# EAGLE library part AD725 (library logik2)
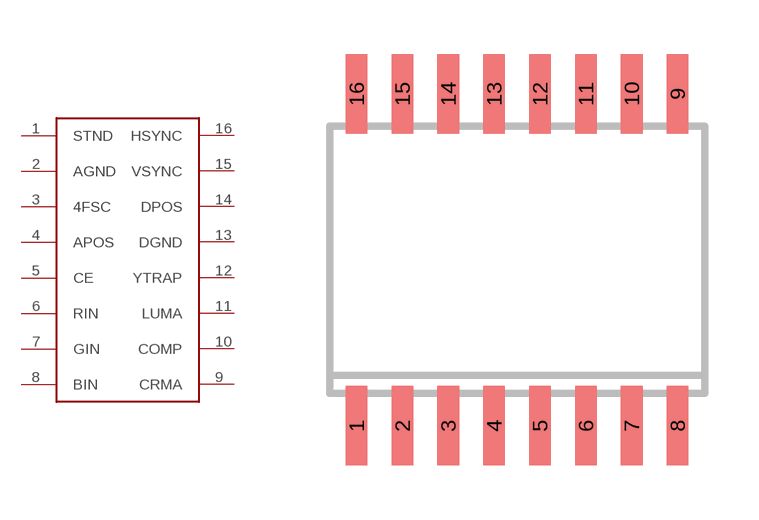
[diagram p16: symbol with the pads of SO16W; footprint SO16W]

Designator prefix -

## AD725  [SO16W]
1  STND
2  AGND
3  4FSC
4  APOS
5  CE
6  RIN
7  GIN
8  BIN
9  CRMA
10  COMP
11  LUMA
12  YTRAP
13  DGND
14  DPOS
15  VSYNC
16  HSYNC

## Footprint SO16W (pad centres in mm)
SMALL OUTLINE INTEGRATED CIRCUIT wide body 7.5 mm/JEDEC MS-013AA
smd 0.6 x 2.2: 1 -4.445,-4.6; 2 -3.175,-4.6; 3 -1.905,-4.6; 4 -0.635,-4.6; 5 0.635,-4.6; 6 1.905,-4.6; 7 3.175,-4.6; 8 4.445,-4.6; 9 4.445,4.6; 10 3.175,4.6; 11 1.905,4.6; 12 0.635,4.6; 13 -0.635,4.6; 14 -1.905,4.6; 15 -3.175,4.6; 16 -4.445,4.6